# EAGLE library part TEENSY-4.0-FULL-BREAKOUT-PADS_PINS (library Teensy-4.0)
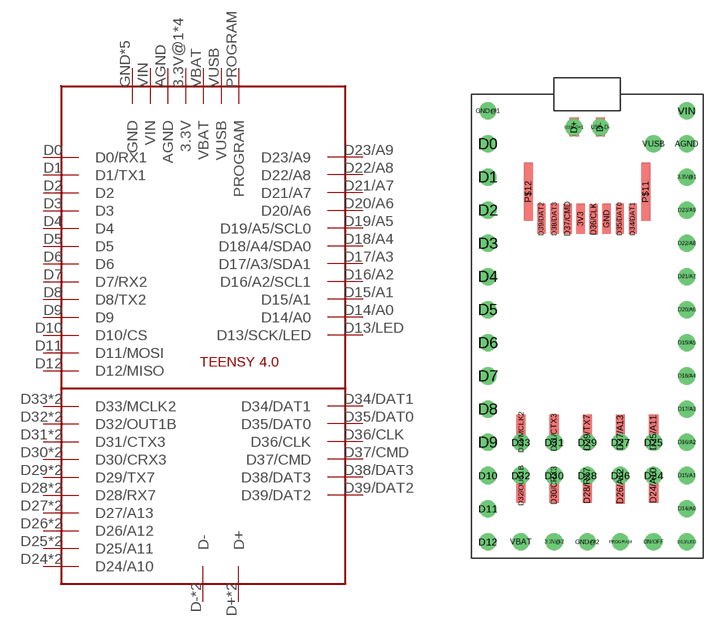
[diagram p1: symbol with the pads of TEENSY-4.0-FULL-BREAKOUT-PADS_PINS; footprint TEENSY-4.0-FULL-BREAKOUT-PADS_PINS]

Designator prefix -

## TEENSY-4.0-FULL-BREAKOUT-PADS_PINS  [TEENSY-4.0-FULL-BREAKOUT-PADS_PINS]
3.3V@1  3.3V
3.3V@2  3.3V
3V3  3.3V
AGND  AGND
D0  D0/RX1
D1  D1/TX1
D2  D2
D3  D3
D4  D4
D5  D5
D6  D6
D7  D7/RX2
D8  D8/TX2
D9  D9
D10  D10/CS
D11  D11/MOSI
D12  D12/MISO
D13/LED  D13/SCK/LED
D14/A0  D14/A0
D15/A1  D15/A1
D16/A2  D16/A2/SCL1
D17/A3  D17/A3/SDA1
D18/A4  D18/A4/SDA0
D19/A5  D19/A5/SCL0
D20/A6  D20/A6
D21/A7  D21/A7
D22/A8  D22/A8
D23/A9  D23/A9
D24  D24/A10
D24/A10  D24/A10
D25  D25/A11
D25/A11  D25/A11
D26  D26/A12
D26/A12  D26/A12
D27  D27/A13
D27/A13  D27/A13
D28  D28/RX7
D28/RX7  D28/RX7
D29  D29/TX7
D29/TX7  D29/TX7
D30  D30/CRX3
D30/CRX3  D30/CRX3
D31  D31/CTX3
D31/CTX3  D31/CTX3
D32  D32/OUT1B
D32/OUT1B  D32/OUT1B
D33  D33/MCLK2
D33/MCLK2  D33/MCLK2
D34/DAT1  D34/DAT1
D35/DAT0  D35/DAT0
D36/CLK  D36/CLK
D37/CMD  D37/CMD
D38/DAT3  D38/DAT3
D39/DAT2  D39/DAT2
D+  D+
D-  D-
GND  GND
GND@1  GND
GND@2  GND
ON/OFF  3.3V
P$11  GND
P$12  GND
PROGRAM  PROGRAM
USB-D+1  D+
USB-D-  D-
VBAT  VBAT
VIN  VIN
VUSB  VUSB

## Footprint TEENSY-4.0-FULL-BREAKOUT-PADS_PINS (pad centres in mm)
drill 0.8: 3.3V@1 8.89,10.16; 3.3V@2 -1.27,-17.78; AGND 8.89,12.7; D0 -6.35,12.7; D1 -6.35,10.16; D2 -6.35,7.62; D3 -6.35,5.08; D4 -6.35,2.54; D5 -6.35,0; D6 -6.35,-2.54; D7 -6.35,-5.08; D8 -6.35,-7.62; D9 -6.35,-10.16; D10 -6.35,-12.7; D11 -6.35,-15.24; D12 -6.35,-17.78; D13/LED 8.89,-17.78; D14/A0 8.89,-15.24; D15/A1 8.89,-12.7; D16/A2 8.89,-10.16; D17/A3 8.89,-7.62; D18/A4 8.89,-5.08; D19/A5 8.89,-2.54; D20/A6 8.89,0; D21/A7 8.89,2.54; D22/A8 8.89,5.08; D23/A9 8.89,7.62; D24 6.35,-12.7; D25 6.35,-10.16; D26 3.81,-12.7; D27 3.81,-10.16; D28 1.27,-12.7; D29 1.27,-10.16; D30 -1.27,-12.7; D31 -1.27,-10.16; D32 -3.81,-12.7; D33 -3.81,-10.16; GND@1 -6.35,15.24; GND@2 1.27,-17.78; ON/OFF 6.35,-17.78; PROGRAM 3.81,-17.78; USB-D+1 0.254,13.97; USB-D- 2.286,13.97; VBAT -3.81,-17.78; VIN 8.89,15.24; VUSB 6.35,12.7
smd 0.635 x 2.286: 3V3 0.762,6.965; D34/DAT1 4.762,6.965; D35/DAT0 3.762,6.965; D36/CLK 1.762,6.935; D37/CMD -0.238,6.965; D38/DAT3 -1.238,6.965; D39/DAT2 -2.238,6.965; GND 2.762,6.965
smd 0.711 x 2.667: D24/A10 6.35,-13.462; D25/A11 6.35,-9.398; D26/A12 3.81,-13.513; D27/A13 3.81,-9.398; D28/RX7 1.27,-13.462; D30/CRX3 -1.27,-13.462; D31/CTX3 -1.27,-9.398; D32/OUT1B -3.81,-13.462; D33/MCLK2 -3.81,-9.398
smd 0.711 x 2.692: D29/TX7 1.27,-9.398
smd 0.711 x 1.422: D+ 0.27,14; D- 2.27,14
smd 0.711 x 4.445: P$11 5.762,9.036; P$12 -3.238,9.049